# Altium integrated library Varistor.IntLib: 5 symbols
Pins are listed as number, name and electrical type; pins without a type are passive.

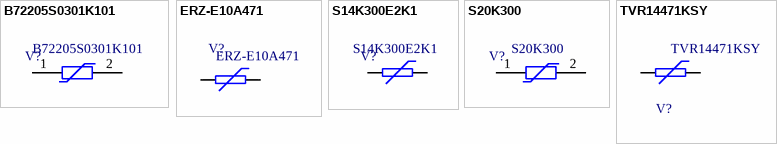
[diagram p0: symbols B72205S0301K101 to TVR14471KSY]

## B72205S0301K101
designator V?  MPN: B72205S0301K101  (hidden comment: *)
Varistors 300volts 400A; MFT: EPCOS / TDK; VALUE: B72205S0301K101; TYPE: THROUGH-HOLE
footprint B72205S0301K101
pins: 1, 2

## ERZ-E10A471
designator V?  MPN: ERZ-E10A471  (hidden comment: *)
VARISTOR 470V 4.5KA DISC 11.5MM; MFT: Panasonic Electronic Components; VALUE: ERZ-E10A471; TYPE: Through Hole
footprint ERZ-E10A471
pins: 1, 2

## S14K300E2K1
designator V?  MPN: S14K300E2K1  (hidden comment: *)
VARISTOR 470V 6KA DISC 14MM; MFT: EPCOS (TDK); VALUE: S14K300E2K1; TYPE: TH; RATING: 470V; FUNCTION: *; DNP: *
footprint S14K300E2K1
pins: 1, 2

## S20K300
designator V?  MPN: S20K300  (hidden comment: *)
VARISTOR 470V 8KA DISC 20MM; MFT: EPCOS (TDK); VALUE: S20K300; TYPE: TH; RATING: 470V 8KA; FUNCTION: *; DNP: *
footprint S20K300
pins: 1, 2

## TVR14471KSY
designator V?
RESISTOR, VOLTAGE DEPENDENT, 385 V, 125 J, THROUGH HOLE; MFT: Thinking Electronic Industrial Co., Ltd.; RATING: 385 V; VALUE: TVR14471KSY; TYPE: TH; FUNCTION: *; DNP: *; MPN: TVR14471KSY
footprint TVR14471KSY
pins: 1, 2